# Altium schematic symbol library PDU_YEDEK.SchLib: 83 symbols (part 2 of 10)
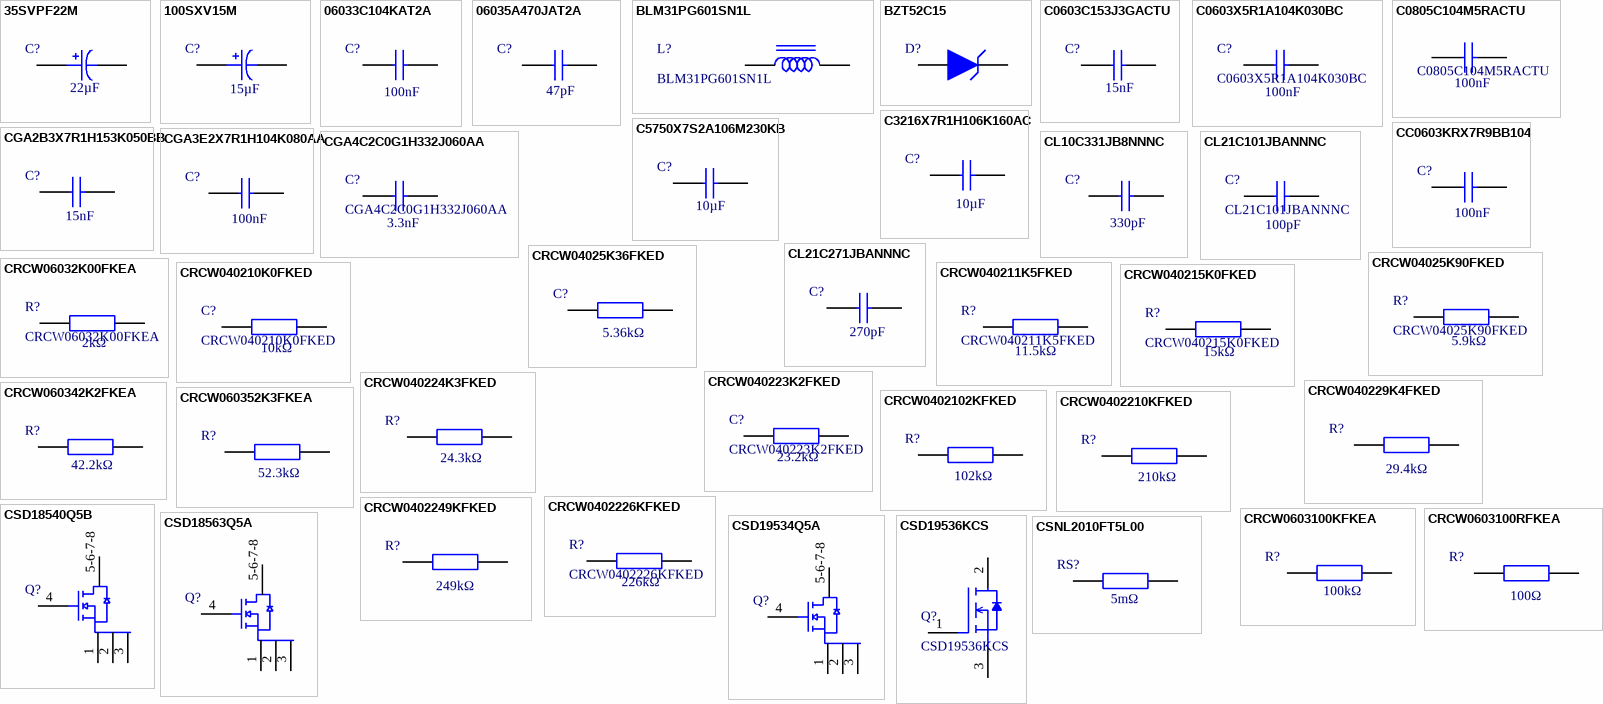
[diagram p3: symbols 35SVPF22M to CSNL2010FT5L00]

## C0805C104M5RACTU
designator C?  value 100nF
50V 100nF X7R ±20% 0805 Multilayer Ceramic Capacitors MLCC - SMD/SMT ROHS; Manufacturer: Yageo Group; Dissipation Factor: 2.5%; Temperature Coefficient: 30ppm/°C; Supplier: Farnell; Supplier Part Number: C0805C104M5RACTU; Manufacturer Part Number: C0805C104M5RACTU; RoHS: Compliant; Category: Ceramic Capacitors; Stock: 81750; Pricing: 10=0,0284, 100=0,0246, 500=0,0179, 1000=0,0161, 2000=0,0135 (EUR); Case/Package: 0805; Case Code (Imperial): 0805; China RoHS: Compliant; Country of Origin: Mexico; Depth: 1.25mm; Dielectric: X7R; Dielectric Material: Ceramic; Export Control Classification Number (ECCN) Code: EAR99; Height: 780µm; Harmonized Tariff Schedule (HTS) Code: 8532.24.00.20; Introduction Date: 2008-01-10; Lead Free: Lead Free; Length: 2mm; Lifecycle Status: Production; Material: Ceramic; Max Operating Temperature: 125°C; Min Operating Temperature: -55°C; Mounting Technology: Surface Mount; Pins: 2; Number of Terminals: 2; Packaging: Cut Tape; Radiation Hardening: No; REACH SVHC: Yes; Schedule B: 8532240020, 8532240020|8532240020, 8532240020|8532240020|8532240020, 8532240020|8532240020|8532240020|8532240020; Termination: SMD/SMT; Thickness: 889µm; Tolerance: 20%; Voltage: 50V; Voltage Rating: 50V; Voltage Rating (DC): 50V; Weight: 5.499807mg; Width: 1.25mm; ComponentLink1URL: https://datasheet.octopart.com:443/C0805C104M5RACTU-KEMET-datasheet-178445679.pdf?src-supplier=Farnell; ComponentLink1Description: https://datasheet.octopart.com:443/C0805C104M5RACTU-KEMET-datasheet-178445679.pdf?src-supplier=Farnell; ComponentLink2URL: https://datasheet.octopart.com:443/C0805C104M5RACTU-KEMET-datasheet-137357759.pdf?src-supplier=Farnell; ComponentLink2Description: https://datasheet.octopart.com:443/C0805C104M5RACTU-KEMET-datasheet-137357759.pdf?src-supplier=Farnell; ComponentLink3URL: https://datasheet.octopart.com:443/C0805C104M5RACTU-KEMET-datasheet-101576149.pdf?src-supplier=Farnell; ComponentLink3Description: https://datasheet.octopart.com:443/C0805C104M5RACTU-KEMET-datasheet-101576149.pdf?src-supplier=Farnell; ComponentLink4URL: https://datasheet.octopart.com:443/C0805C104M5RAC-TU-Kemet-datasheet-7833651.pdf?src-supplier=Farnell; ComponentLink4Description: https://datasheet.octopart.com:443/C0805C104M5RAC-TU-Kemet-datasheet-7833651.pdf?src-supplier=Farnell; ComponentLink5URL: https://datasheet.octopart.com:443/C0805C104M5RAC-TU-Kemet-datasheet-7601896.pdf?src-supplier=Farnell; ComponentLink5Description: https://datasheet.octopart.com:443/C0805C104M5RAC-TU-Kemet-datasheet-7601896.pdf?src-supplier=Farnell; ComponentLink6URL: https://datasheet.octopart.com:443/C0805C104M5RAC-TU-Kemet-datasheet-5316294.pdf?src-supplier=Farnell; ComponentLink6Description: https://datasheet.octopart.com:443/C0805C104M5RAC-TU-Kemet-datasheet-5316294.pdf?src-supplier=Farnell; ComponentLink7URL: https://datasheet.octopart.com:443/C0805C104M5RAC-TU-Kemet-datasheet-5314837.pdf?src-supplier=Farnell; ComponentLink7Description: https://datasheet.octopart.com:443/C0805C104M5RAC-TU-Kemet-datasheet-5314837.pdf?src-supplier=Farnell; ComponentLink8URL: https://datasheet.octopart.com:443/C0805C104M5RAC-TU-Kemet-datasheet-8092359.pdf?src-supplier=Farnell; ComponentLink8Description: https://datasheet.octopart.com:443/C0805C104M5RAC-TU-Kemet-datasheet-8092359.pdf?src-supplier=Farnell; ComponentLink9URL: https://datasheet.octopart.com:443/C0805C104M5RAC-TU-Kemet-datasheet-5314449.pdf?src-supplier=Farnell; ComponentLink9Description: https://datasheet.octopart.com:443/C0805C104M5RAC-TU-Kemet-datasheet-5314449.pdf?src-supplier=Farnell; ComponentLink10URL: https://datasheet.octopart.com:443/C0805C104M5RAC-TU-Kemet-datasheet-5314969.pdf?src-supplier=Farnell; ComponentLink10Description: https://datasheet.octopart.com:443/C0805C104M5RAC-TU-Kemet-datasheet-5314969.pdf?src-supplier=Farnell; ComponentLink11URL: https://datasheet.octopart.com:443/C0805C104M5RAC-TU-Kemet-datasheet-5314627.pdf?src-supplier=Farnell; ComponentLink11Description: https://datasheet.octopart.com:443/C0805C104M5RAC-TU-Kemet-datasheet-5314627.pdf?src-supplier=Farnell; ComponentLink12URL: https://datasheet.octopart.com:443/C0805C104M5RAC-TU-Kemet-datasheet-5389132.pdf?src-supplier=Farnell; ComponentLink12Description: https://datasheet.octopart.com:443/C0805C104M5RAC-TU-Kemet-datasheet-5389132.pdf?src-supplier=Farnell; ComponentLink13URL: https://datasheet.octopart.com:443/C0805C104M5RAC-TU-Kemet-datasheet-5313836.pdf?src-supplier=Farnell; ComponentLink13Description: https://datasheet.octopart.com:443/C0805C104M5RAC-TU-Kemet-datasheet-5313836.pdf?src-supplier=Farnell; ComponentLink14URL: https://datasheet.octopart.com:443/C0805C104M5RAC-TU-Kemet-datasheet-8111010.pdf?src-supplier=Farnell; ComponentLink14Description: https://datasheet.octopart.com:443/C0805C104M5RAC-TU-Kemet-datasheet-8111010.pdf?src-supplier=Farnell; ComponentLink15URL: https://datasheet.octopart.com:443/C0805C104M5RAC-TU-Kemet-datasheet-7627733.pdf?src-supplier=Farnell; ComponentLink15Description: https://datasheet.octopart.com:443/C0805C104M5RAC-TU-Kemet-datasheet-7627733.pdf?src-supplier=Farnell; ComponentLink16URL: https://datasheet.octopart.com:443/C0805C104M5RAC-TU-Kemet-datasheet-5315946.pdf?src-supplier=Farnell; ComponentLink16Description: https://datasheet.octopart.com:443/C0805C104M5RAC-TU-Kemet-datasheet-5315946.pdf?src-supplier=Farnell; ComponentLink17URL: https://datasheet.octopart.com:443/C0805C104M5RACTU-KEMET-datasheet-182041143.pdf?src-supplier=IHS; ComponentLink17Description: https://datasheet.octopart.com:443/C0805C104M5RACTU-KEMET-datasheet-182041143.pdf?src-supplier=IHS; ComponentLink18URL: https://datasheet.octopart.com:443/C0805C104M5RACTU-KEMET-datasheet-68331921.pdf?src-supplier=Upverter; ComponentLink18Description: https://datasheet.octopart.com:443/C0805C104M5RACTU-KEMET-datasheet-68331921.pdf?src-supplier=Upverter; ComponentLink19URL: https://datasheet.octopart.com:443/C0805C104M5RAC-TU-Kemet-datasheet-5313890.pdf?src-supplier=Newark; ComponentLink19Description: https://datasheet.octopart.com:443/C0805C104M5RAC-TU-Kemet-datasheet-5313890.pdf?src-supplier=Newark; ComponentLink20URL: https://datasheet.octopart.com:443/C0805C104M5RAC-TU-Kemet-datasheet-5390537.pdf?src-supplier=Newark; ComponentLink20Description: https://datasheet.octopart.com:443/C0805C104M5RAC-TU-Kemet-datasheet-5390537.pdf?src-supplier=Newark; ComponentLink21URL: https://datasheet.octopart.com:443/C0805C104M5RAC-TU-Kemet-datasheet-7541751.pdf?src-supplier=Newark; ComponentLink21Description: https://datasheet.octopart.com:443/C0805C104M5RAC-TU-Kemet-datasheet-7541751.pdf?src-supplier=Newark; ComponentLink22URL: https://datasheet.octopart.com:443/C0805C104M5RACTU-KEMET-datasheet-176289591.pdf?src-supplier=Newark; ComponentLink22Description: https://datasheet.octopart.com:443/C0805C104M5RACTU-KEMET-datasheet-176289591.pdf?src-supplier=Newark; ComponentLink23URL: https://datasheet.octopart.com:443/C0805C104M5RACTU-KEMET-datasheet-130256537.pdf?src-supplier=Newark; ComponentLink23Description: https://datasheet.octopart.com:443/C0805C104M5RACTU-KEMET-datasheet-130256537.pdf?src-supplier=Newark; ComponentLink24URL: https://datasheet.octopart.com:443/C0805C104M5RACTU-Kemet-datasheet-27203261.pdf?src-supplier=Newark; ComponentLink24Description: https://datasheet.octopart.com:443/C0805C104M5RACTU-Kemet-datasheet-27203261.pdf?src-supplier=Newark; ComponentLink25URL: https://datasheet.octopart.com:443/C0805C104M5RACTU-Kemet-datasheet-8764837.pdf?src-supplier=Newark; ComponentLink25Description: https://datasheet.octopart.com:443/C0805C104M5RACTU-Kemet-datasheet-8764837.pdf?src-supplier=Newark; ComponentLink26URL: https://datasheet.octopart.com:443/C0805C104M5RACTU-Kemet-datasheet-8480123.pdf?src-supplier=Newark; ComponentLink26Description: https://datasheet.octopart.com:443/C0805C104M5RACTU-Kemet-datasheet-8480123.pdf?src-supplier=Newark; ComponentLink27URL: https://datasheet.octopart.com:443/C0805C104M5RACTU-Kemet-datasheet-5393970.pdf?src-supplier=Newark; ComponentLink27Description: https://datasheet.octopart.com:443/C0805C104M5RACTU-Kemet-datasheet-5393970.pdf?src-supplier=Newark; ComponentLink28URL: https://datasheet.octopart.com:443/C0805C104M5RACTU-Kemet-datasheet-8502025.pdf?src-supplier=Newark; ComponentLink28Description: https://datasheet.octopart.com:443/C0805C104M5RACTU-Kemet-datasheet-8502025.pdf?src-supplier=Newark; ComponentLink29URL: https://datasheet.octopart.com:443/C0805C104M5RACTU-Kemet-datasheet-161801.pdf?src-supplier=Newark; ComponentLink29Description: https://datasheet.octopart.com:443/C0805C104M5RACTU-Kemet-datasheet-161801.pdf?src-supplier=Newark; ComponentLink30URL: https://datasheet.octopart.com:443/C0805C104M5RACTU-KEMET-datasheet-37550250.pdf?src-supplier=Electro+Sonic; ComponentLink30Description: https://datasheet.octopart.com:443/C0805C104M5RACTU-KEMET-datasheet-37550250.pdf?src-supplier=Electro+Sonic; ComponentLink31URL: https://datasheet.octopart.com:443/C0805C104M5RACTU-Kemet-datasheet-12608295.pdf?src-supplier=element14+APAC; ComponentLink31Description: https://datasheet.octopart.com:443/C0805C104M5RACTU-Kemet-datasheet-12608295.pdf?src-supplier=element14+APAC; ComponentLink32URL: https://datasheet.octopart.com:443/C0805C104M5RACTU-Kemet-datasheet-11992184.pdf?src-supplier=element14+APAC; ComponentLink32Description: https://datasheet.octopart.com:443/C0805C104M5RACTU-Kemet-datasheet-11992184.pdf?src-supplier=element14+APAC; ComponentLink33URL: https://datasheet.octopart.com:443/C0805C104M5RACTU-Kemet-datasheet-10942409.pdf?src-supplier=element14+APAC; ComponentLink33Description: https://datasheet.octopart.com:443/C0805C104M5RACTU-Kemet-datasheet-10942409.pdf?src-supplier=element14+APAC; ComponentLink34URL: https://datasheet.octopart.com:443/C0805C104M5RACTU-Kemet-datasheet-10404442.pdf?src-supplier=element14+APAC; ComponentLink34Description: https://datasheet.octopart.com:443/C0805C104M5RACTU-Kemet-datasheet-10404442.pdf?src-supplier=element14+APAC; ComponentLink35URL: https://datasheet.octopart.com:443/C0805C104M5RACTU-Kemet-datasheet-66534773.pdf?src-supplier=element14+APAC; ComponentLink35Description: https://datasheet.octopart.com:443/C0805C104M5RACTU-Kemet-datasheet-66534773.pdf?src-supplier=element14+APAC; ComponentLink36URL: https://datasheet.octopart.com:443/C0805C104M5RACTU-Kemet-datasheet-66100808.pdf?src-supplier=element14+APAC; ComponentLink36Description: https://datasheet.octopart.com:443/C0805C104M5RACTU-Kemet-datasheet-66100808.pdf?src-supplier=element14+APAC; ComponentLink37URL: https://datasheet.octopart.com:443/C0805C104M5RACTU-Kemet-datasheet-32036385.pdf?src-supplier=element14+APAC; ComponentLink37Description: https://datasheet.octopart.com:443/C0805C104M5RACTU-Kemet-datasheet-32036385.pdf?src-supplier=element14+APAC; ComponentLink38URL: https://datasheet.octopart.com:443/C0805C104M5RAC7800-KEMET-datasheet-188512054.pdf?src-supplier=ODG+(Origin+Data+Global); ComponentLink38Description: https://datasheet.octopart.com:443/C0805C104M5RAC7800-KEMET-datasheet-188512054.pdf?src-supplier=ODG+(Origin+Data+Global); ComponentLink39URL: https://datasheet.octopart.com:443/C0805C104M5RACTU-KEMET-datasheet-164512540.pdf?src-supplier=TME; ComponentLink39Description: https://datasheet.octopart.com:443/C0805C104M5RACTU-KEMET-datasheet-164512540.pdf?src-supplier=TME; ComponentLink40URL: https://datasheet.octopart.com:443/C0805C104M5RACTU-Kemet-datasheet-67847108.pdf?src-supplier=TME; ComponentLink40Description: https://datasheet.octopart.com:443/C0805C104M5RACTU-Kemet-datasheet-67847108.pdf?src-supplier=TME; ComponentLink41URL: https://datasheet.octopart.com:443/C0805C104M5RACTU-KEMET-datasheet-68331906.pdf?src-supplier=TME; ComponentLink41Description: https://datasheet.octopart.com:443/C0805C104M5RACTU-KEMET-datasheet-68331906.pdf?src-supplier=TME; ComponentLink42URL: https://datasheet.octopart.com:443/C0805C104M5RACTU-KEMET-datasheet-110724412.pdf?src-supplier=RS+(Formerly+Allied+Electronics); ComponentLink42Description: https://datasheet.octopart.com:443/C0805C104M5RACTU-KEMET-datasheet-110724412.pdf?src-supplier=RS+(Formerly+Allied+Electronics); ComponentLink43URL: https://datasheet.octopart.com:443/C0805C104M5RACTU-Kemet-datasheet-464.pdf?src-supplier=RS+(Formerly+Allied+Electronics); ComponentLink43Description: https://datasheet.octopart.com:443/C0805C104M5RACTU-Kemet-datasheet-464.pdf?src-supplier=RS+(Formerly+Allied+Electronics); ComponentLink44URL: https://datasheet.octopart.com/C0805C104M5RACTU-KEMET-datasheet-84169754.pdf; ComponentLink44Description: https://datasheet.octopart.com/C0805C104M5RACTU-KEMET-datasheet-84169754.pdf; ComponentLink45URL: https://datasheet.octopart.com:443/C0805C104M5RACTU-Kemet-datasheet-11629161.pdf?src-supplier=Arrow+Electronics; ComponentLink45Description: https://datasheet.octopart.com:443/C0805C104M5RACTU-Kemet-datasheet-11629161.pdf?src-supplier=Arrow+Electronics; ComponentLink46URL: https://datasheet.octopart.com:443/C0805C104M5RAC-TU-Kemet-datasheet-7281245.pdf?src-supplier=Jameco; ComponentLink46Description: https://datasheet.octopart.com:443/C0805C104M5RAC-TU-Kemet-datasheet-7281245.pdf?src-supplier=Jameco; ComponentLink47URL: http://sigma.octopart.com:80/conflict_mineral_statement/Yageo-company-3.pdf?src-supplier=Compliance+Statements; ComponentLink47Description: http://sigma.octopart.com:80/conflict_mineral_statement/Yageo-company-3.pdf?src-supplier=Compliance+Statements; ComponentLink48URL: http://sigma.octopart.com:80/rohs_statement/Yageo-company-2.pdf?src-supplier=Compliance+Statements; ComponentLink48Description: http://sigma.octopart.com:80/rohs_statement/Yageo-company-2.pdf?src-supplier=Compliance+Statements
pins: 1, 2

## C3216X7R1H106K160AC
designator C?  value 10µF  (hidden comment: C3216X7R1H106K160AC)
50V 10uF X7R 卤10% 1206 Multilayer Ceramic Capacitors MLCC - SMD/SMT ROHS; Manufacturer: TDK; Manufacturer Lifecycle Status: PRODUCTION; Supplier: Farnell; Supplier Part Number: C3216X7R1H106K160AC; Manufacturer Part Number: C3216X7R1H106K160AC; RoHS: Compliant; Category: Ceramic Capacitors; Stock: 6363; Pricing: 5=0,77, 50=0,378, 250=0,344, 500=0,286, 1000=0,268, 2000=0,259 (EUR); Case/Package: 1206; Case Code (Metric): 3216; China RoHS: Compliant; Dielectric: X7R; Dielectric Material: Ceramic; Export Control Classification Number (ECCN) Code: EAR99; Height: 1.6mm; Harmonized Tariff Schedule (HTS) Code: 8532.24.00.20; Introduction Date: 2018-03-29; Lead Free: Lead Free; Length: 3.2mm; Lifecycle Status: Production; Material: Ceramic; Max Length: 3.5mm; Max Operating Temperature: 125°C; Max Width: 1.9mm; Min Length: 3.1mm; Min Operating Temperature: -55°C; Min Width: 1.5mm; Mounting Technology: Surface Mount; Number of Terminals: 2; REACH SVHC: Yes; Schedule B: 8532240020, 8532240020|8532240020|8532240020|8532240020|8532240020; Thickness: 1.6mm; Voltage Rating: 50V; Voltage Rating (DC): 50V; Width: 1.6mm; ComponentLink1URL: https://datasheet.octopart.com:443/C3216X7R1H106K160AC-TDK-datasheet-175423548.pdf?src-supplier=TME; ComponentLink1Description: https://datasheet.octopart.com:443/C3216X7R1H106K160AC-TDK-datasheet-175423548.pdf?src-supplier=TME; ComponentLink2URL: https://datasheet.octopart.com:443/C3216X7R1H106K160AC-TDK-datasheet-182135025.pdf?src-supplier=TME; ComponentLink2Description: https://datasheet.octopart.com:443/C3216X7R1H106K160AC-TDK-datasheet-182135025.pdf?src-supplier=TME; ComponentLink3URL: https://datasheet.octopart.com:443/C3216X7R1H106K160AC-TDK-datasheet-159617022.pdf?src-supplier=TME; ComponentLink3Description: https://datasheet.octopart.com:443/C3216X7R1H106K160AC-TDK-datasheet-159617022.pdf?src-supplier=TME; ComponentLink4URL: https://datasheet.octopart.com:443/C3216X7R1H106K160AC-TDK-datasheet-151546523.pdf?src-supplier=ODG+(Origin+Data+Global); ComponentLink4Description: https://datasheet.octopart.com:443/C3216X7R1H106K160AC-TDK-datasheet-151546523.pdf?src-supplier=ODG+(Origin+Data+Global); ComponentLink5URL: https://datasheet.octopart.com/C3216X7R1H106K160AC-TDK-datasheet-41194876.pdf; ComponentLink5Description: https://datasheet.octopart.com/C3216X7R1H106K160AC-TDK-datasheet-41194876.pdf; ComponentLink6URL: https://datasheet.octopart.com/C-Series-Ceramic-Chip-Capacitors-TDK-datasheet-family-84.pdf; ComponentLink6Description: https://datasheet.octopart.com/C-Series-Ceramic-Chip-Capacitors-TDK-datasheet-family-84.pdf; ComponentLink7URL: http://sigma.octopart.com:80/rohs_certificate/C-Series-Ceramic-Chip-Capacitors-TDK-family-108.pdf?src-supplier=Compliance+Statements; ComponentLink7Description: http://sigma.octopart.com:80/rohs_certificate/C-Series-Ceramic-Chip-Capacitors-TDK-family-108.pdf?src-supplier=Compliance+Statements
pins: 1, 2

## C5750X7S2A106M230KB
designator C?  value 10µF  (hidden comment: C5750X7S2A106M230KB)
Multilayer Ceramic Capacitor, C Series, 10 - F, - 20%, X7S, 100 V, 2220 [5650 Metric]; Manufacturer: TDK; Manufacturer Lifecycle Status: PRODUCTION (NOT RECOMMENDED FOR NEW DESIGN); Voltage: 100V; Supplier: Future Electronics; Supplier Part Number: C5750X7S2A106M230KB; Manufacturer Part Number: C5750X7S2A106M230KB; RoHS: Compliant; Category: Ceramic Capacitors; Stock: 30000; Pricing: 500=0,88, 1000=0,865, 1500=0,86, 2000=0,85 (USD); Case/Package: 2220; Case Code (Imperial): 2220; Case Code (Metric): 5750; China RoHS: Compliant; Composition: Ceramic; Depth: 5mm; Dielectric: X7S; Dielectric Material: Ceramic; Height: 2.3mm; Lead Free: Lead Free; Length: 5.7mm; Lifecycle Status: NRND; Material: Ceramic; Max Length: 6.1mm; Max Operating Temperature: 125°C; Max Width: 5.4mm; Min Length: 5.3mm; Min Operating Temperature: -55°C; Min Width: 4.6mm; Mounting Technology: Surface Mount; Pins: 2; Number of Terminals: 2; REACH SVHC: Yes; Schedule B: 8532240020, 8532240020|8532240020|8532240020|8532240020|8532240020; Termination: SMD/SMT; Thickness: 2.4892mm; Tolerance: 20%; Voltage Rating: 100V; Voltage Rating (DC): 100V; Weight: 480.014126mg; Width: 5mm; ComponentLink1URL: https://datasheet.octopart.com:443/C5750X7S2A106M230KB-TDK-datasheet-159617022.pdf?src-supplier=IHS; ComponentLink1Description: https://datasheet.octopart.com:443/C5750X7S2A106M230KB-TDK-datasheet-159617022.pdf?src-supplier=IHS; ComponentLink2URL: https://datasheet.octopart.com:443/C5750X7S2A106M230KB-TDK-datasheet-151546522.pdf?src-supplier=TDK; ComponentLink2Description: https://datasheet.octopart.com:443/C5750X7S2A106M230KB-TDK-datasheet-151546522.pdf?src-supplier=TDK; ComponentLink3URL: https://datasheet.octopart.com:443/C5750X7S2A106M230KB-TDK-datasheet-43914167.pdf?src-supplier=Newark; ComponentLink3Description: https://datasheet.octopart.com:443/C5750X7S2A106M230KB-TDK-datasheet-43914167.pdf?src-supplier=Newark; ComponentLink4URL: https://datasheet.octopart.com:443/C5750X7S2A106M230KB-TDK-datasheet-15070070.pdf?src-supplier=Newark; ComponentLink4Description: https://datasheet.octopart.com:443/C5750X7S2A106M230KB-TDK-datasheet-15070070.pdf?src-supplier=Newark; ComponentLink5URL: https://datasheet.octopart.com:443/C5750X7S2A106M230KB-TDK-datasheet-41194876.pdf?src-supplier=Newark; ComponentLink5Description: https://datasheet.octopart.com:443/C5750X7S2A106M230KB-TDK-datasheet-41194876.pdf?src-supplier=Newark; ComponentLink6URL: https://datasheet.octopart.com:443/C5750X7S2A106M230KB-TDK-datasheet-154543791.pdf?src-supplier=ODG+(Origin+Data+Global); ComponentLink6Description: https://datasheet.octopart.com:443/C5750X7S2A106M230KB-TDK-datasheet-154543791.pdf?src-supplier=ODG+(Origin+Data+Global); ComponentLink7URL: https://datasheet.octopart.com:443/C5750X7S2A106M230KB-TDK-datasheet-13376850.pdf?src-supplier=Farnell; ComponentLink7Description: https://datasheet.octopart.com:443/C5750X7S2A106M230KB-TDK-datasheet-13376850.pdf?src-supplier=Farnell; ComponentLink8URL: https://datasheet.octopart.com:443/C5750X7S2A106M230KB-TDK-datasheet-11980753.pdf?src-supplier=Farnell; ComponentLink8Description: https://datasheet.octopart.com:443/C5750X7S2A106M230KB-TDK-datasheet-11980753.pdf?src-supplier=Farnell; ComponentLink9URL: https://datasheet.octopart.com:443/C5750X7S2A106M-TDK-datasheet-11517535.pdf?src-supplier=Farnell; ComponentLink9Description: https://datasheet.octopart.com:443/C5750X7S2A106M-TDK-datasheet-11517535.pdf?src-supplier=Farnell; ComponentLink10URL: https://datasheet.octopart.com:443/C5750X7S2A106M-TDK-datasheet-8852320.pdf?src-supplier=Farnell; ComponentLink10Description: https://datasheet.octopart.com:443/C5750X7S2A106M-TDK-datasheet-8852320.pdf?src-supplier=Farnell; ComponentLink11URL: https://datasheet.octopart.com:443/C5750X7S2A106M230KB-TDK-datasheet-12514252.pdf?src-supplier=Future+Electronics; ComponentLink11Description: https://datasheet.octopart.com:443/C5750X7S2A106M230KB-TDK-datasheet-12514252.pdf?src-supplier=Future+Electronics; ComponentLink12URL: https://datasheet.octopart.com:443/C5750X7S2A106M230KB-TDK-datasheet-8853194.pdf?src-supplier=Future+Electronics; ComponentLink12Description: https://datasheet.octopart.com:443/C5750X7S2A106M230KB-TDK-datasheet-8853194.pdf?src-supplier=Future+Electronics; ComponentLink13URL: https://datasheet.octopart.com:443/C5750X7S2A106M-TDK-datasheet-11775989.pdf?src-supplier=Factory+Futures; ComponentLink13Description: https://datasheet.octopart.com:443/C5750X7S2A106M-TDK-datasheet-11775989.pdf?src-supplier=Factory+Futures
pins: 1, 2

## CC0603KRX7R9BB104
designator C?  value 100nF  (hidden comment: CC0603KRX7R9BB104)
Multilayer Ceramic Capacitor, CC Series, 0.1 - F, - 10%, X7R, 50 V, 0603 [1608 Metric]; Manufacturer: Yageo Group; Voltage: 50V; Supplier: Farnell; Supplier Part Number: CC0603KRX7R9BB104; Manufacturer Part Number: CC0603KRX7R9BB104; RoHS: Compliant; Category: Ceramic Capacitors; Stock: 1056568; Pricing: 10=0,0259, 100=0,0121, 500=0,0113, 1000=0,0104, 2000=0,0089, 4000=0,0073 (EUR); Case/Package: 0603; Case Code (Imperial): 0603; Case Code (Metric): 1608; China RoHS: Compliant; Country of Origin: Mainland China, Taiwan; Depth: 800µm; Dielectric: X7R; Dielectric Material: Ceramic; Export Control Classification Number (ECCN) Code: EAR99; Halogen Free: Halogen Free; Height: 800µm; Harmonized Tariff Schedule (HTS) Code: 8532.24.00.20; Introduction Date: 2005-08-18; Lead Free: Lead Free; Length: 1.6mm; Lifecycle Status: Production; Material: Ceramic; Max Operating Temperature: 125°C; Min Operating Temperature: -55°C; Mounting Technology: Surface Mount; Pins: 2; Number of Terminals: 2; Radiation Hardening: No; REACH SVHC: Yes; Schedule B: 8532240020, 8532240020|8532240020, 8532240020|8532240020|8532240020, 8532240020|8532240020|8532240020|8532240020; Termination: SMD/SMT; Thickness: 889µm; Tolerance: 10%; Voltage Rating: 50V; Voltage Rating (DC): 50V; Width: 800µm; ComponentLink1URL: https://datasheet.octopart.com:443/CC0603KRX7R9BB104-Yageo-datasheet-177165144.pdf?src-supplier=IHS; ComponentLink1Description: https://datasheet.octopart.com:443/CC0603KRX7R9BB104-Yageo-datasheet-177165144.pdf?src-supplier=IHS; ComponentLink2URL: https://datasheet.octopart.com:443/CC0603KRX7R9BB104-Yageo-datasheet-82288757.pdf?src-supplier=Upverter; ComponentLink2Description: https://datasheet.octopart.com:443/CC0603KRX7R9BB104-Yageo-datasheet-82288757.pdf?src-supplier=Upverter; ComponentLink3URL: https://datasheet.octopart.com:443/CC0603KRX7R9BB104-Yageo-datasheet-68298032.pdf?src-supplier=Upverter; ComponentLink3Description: https://datasheet.octopart.com:443/CC0603KRX7R9BB104-Yageo-datasheet-68298032.pdf?src-supplier=Upverter; ComponentLink4URL: https://datasheet.octopart.com:443/CC0603KRX7R9BB104-Yageo-Group-datasheet-189192896.pdf?src-supplier=Future+Electronics; ComponentLink4Description: https://datasheet.octopart.com:443/CC0603KRX7R9BB104-Yageo-Group-datasheet-189192896.pdf?src-supplier=Future+Electronics; ComponentLink5URL: https://datasheet.octopart.com:443/CC0603KRX7R9BB104-Yageo-datasheet-12526321.pdf?src-supplier=Future+Electronics; ComponentLink5Description: https://datasheet.octopart.com:443/CC0603KRX7R9BB104-Yageo-datasheet-12526321.pdf?src-supplier=Future+Electronics; ComponentLink6URL: https://datasheet.octopart.com:443/CC0603KRX7R9BB104-Yageo-datasheet-166511530.pdf?src-supplier=Future+Electronics; ComponentLink6Description: https://datasheet.octopart.com:443/CC0603KRX7R9BB104-Yageo-datasheet-166511530.pdf?src-supplier=Future+Electronics; ComponentLink7URL: https://datasheet.octopart.com:443/CC0603KRX7R9BB104-Yageo-datasheet-137700082.pdf?src-supplier=Future+Electronics; ComponentLink7Description: https://datasheet.octopart.com:443/CC0603KRX7R9BB104-Yageo-datasheet-137700082.pdf?src-supplier=Future+Electronics; ComponentLink8URL: https://datasheet.octopart.com:443/CC0603KRX7R9BB104-Yageo-datasheet-137700084.pdf?src-supplier=Future+Electronics; ComponentLink8Description: https://datasheet.octopart.com:443/CC0603KRX7R9BB104-Yageo-datasheet-137700084.pdf?src-supplier=Future+Electronics; ComponentLink9URL: https://datasheet.octopart.com:443/CC0603KRX7R9BB104-Yageo-datasheet-27626582.pdf?src-supplier=Future+Electronics; ComponentLink9Description: https://datasheet.octopart.com:443/CC0603KRX7R9BB104-Yageo-datasheet-27626582.pdf?src-supplier=Future+Electronics; ComponentLink10URL: https://datasheet.octopart.com:443/CC0603KRX7R9BB104-Yageo-datasheet-15895757.pdf?src-supplier=Future+Electronics; ComponentLink10Description: https://datasheet.octopart.com:443/CC0603KRX7R9BB104-Yageo-datasheet-15895757.pdf?src-supplier=Future+Electronics; ComponentLink11URL: https://datasheet.octopart.com:443/CC0603KRX7R9BB104-Yageo-datasheet-8324192.pdf?src-supplier=Future+Electronics; ComponentLink11Description: https://datasheet.octopart.com:443/CC0603KRX7R9BB104-Yageo-datasheet-8324192.pdf?src-supplier=Future+Electronics; ComponentLink12URL: https://datasheet.octopart.com/CC0603KRX7R9BB104-Yageo-datasheet-10883670.pdf; ComponentLink12Description: https://datasheet.octopart.com/CC0603KRX7R9BB104-Yageo-datasheet-10883670.pdf; ComponentLink13URL: https://datasheet.octopart.com:443/CC0603KRX7R9BB104-Yageo-datasheet-181968726.pdf?src-supplier=Newark; ComponentLink13Description: https://datasheet.octopart.com:443/CC0603KRX7R9BB104-Yageo-datasheet-181968726.pdf?src-supplier=Newark; ComponentLink14URL: https://datasheet.octopart.com:443/CC0603KRX7R9BB104-Yageo-datasheet-499490.pdf?src-supplier=Newark; ComponentLink14Description: https://datasheet.octopart.com:443/CC0603KRX7R9BB104-Yageo-datasheet-499490.pdf?src-supplier=Newark; ComponentLink15URL: https://datasheet.octopart.com:443/CC0603KRX7R9BB104-Yageo-datasheet-62336348.pdf?src-supplier=Newark; ComponentLink15Description: https://datasheet.octopart.com:443/CC0603KRX7R9BB104-Yageo-datasheet-62336348.pdf?src-supplier=Newark; ComponentLink16URL: https://datasheet.octopart.com:443/CC0603KRX7R9BB104-Yageo-datasheet-147453679.pdf?src-supplier=Newark; ComponentLink16Description: https://datasheet.octopart.com:443/CC0603KRX7R9BB104-Yageo-datasheet-147453679.pdf?src-supplier=Newark; ComponentLink17URL: https://datasheet.octopart.com:443/CC0603KRX7R9BB104-Yageo-datasheet-151948686.pdf?src-supplier=Farnell; ComponentLink17Description: https://datasheet.octopart.com:443/CC0603KRX7R9BB104-Yageo-datasheet-151948686.pdf?src-supplier=Farnell; ComponentLink18URL: https://datasheet.octopart.com:443/CC0603KRX7R9BB104-Yageo-datasheet-500777.pdf?src-supplier=Farnell; ComponentLink18Description: https://datasheet.octopart.com:443/CC0603KRX7R9BB104-Yageo-datasheet-500777.pdf?src-supplier=Farnell; ComponentLink19URL: https://datasheet.octopart.com:443/CC0603KRX7R9BB104-Yageo-datasheet-178019014.pdf?src-supplier=Burklin+Elektronik; ComponentLink19Description: https://datasheet.octopart.com:443/CC0603KRX7R9BB104-Yageo-datasheet-178019014.pdf?src-supplier=Burklin+Elektronik; ComponentLink20URL: https://datasheet.octopart.com:443/CC0603KRX7R9BB104-Yageo-Group-datasheet-165992755.pdf?src-supplier=ODG+(Origin+Data+Global); ComponentLink20Description: https://datasheet.octopart.com:443/CC0603KRX7R9BB104-Yageo-Group-datasheet-165992755.pdf?src-supplier=ODG+(Origin+Data+Global); ComponentLink21URL: https://datasheet.octopart.com:443/CC0603KRX7R9BB104-Yageo-datasheet-140260305.pdf?src-supplier=SOS+electronic; ComponentLink21Description: https://datasheet.octopart.com:443/CC0603KRX7R9BB104-Yageo-datasheet-140260305.pdf?src-supplier=SOS+electronic; ComponentLink22URL: https://datasheet.octopart.com:443/CC0603KRX7R9BB104-Yageo-datasheet-120101875.pdf?src-supplier=Megastar; ComponentLink22Description: https://datasheet.octopart.com:443/CC0603KRX7R9BB104-Yageo-datasheet-120101875.pdf?src-supplier=Megastar; ComponentLink23URL: https://datasheet.octopart.com:443/CC0603KRX7R9BB104-Yageo-datasheet-8701427.pdf?src-supplier=element14; ComponentLink23Description: https://datasheet.octopart.com:443/CC0603KRX7R9BB104-Yageo-datasheet-8701427.pdf?src-supplier=element14; ComponentLink24URL: https://datasheet.octopart.com:443/CC0603KRX7R9BB104-Yageo-datasheet-5301394.pdf?src-supplier=element14; ComponentLink24Description: https://datasheet.octopart.com:443/CC0603KRX7R9BB104-Yageo-datasheet-5301394.pdf?src-supplier=element14; ComponentLink25URL: https://datasheet.octopart.com:443/CC0603KRX7R9BB104-Yageo-datasheet-17600895.pdf?src-supplier=TME; ComponentLink25Description: https://datasheet.octopart.com:443/CC0603KRX7R9BB104-Yageo-datasheet-17600895.pdf?src-supplier=TME; ComponentLink26URL: http://sigma.octopart.com:80/15889575/rohs_statement/Yageo-CC0603KRX7R9BB104.pdf?src-supplier=Compliance+Statements; ComponentLink26Description: http://sigma.octopart.com:80/15889575/rohs_statement/Yageo-CC0603KRX7R9BB104.pdf?src-supplier=Compliance+Statements; ComponentLink27URL: http://sigma.octopart.com:80/conflict_mineral_statement/Yageo-company-3.pdf?src-supplier=Compliance+Statements; ComponentLink27Description: http://sigma.octopart.com:80/conflict_mineral_statement/Yageo-company-3.pdf?src-supplier=Compliance+Statements
pins: 1, 2

## CGA2B3X7R1H153K050BB
designator C?  value 15nF  (hidden comment: CGA2B3X7R1H153K050BB)
Cap Ceramic 0.015uF 50V X7R 10% Pad SMD 0402 125C Low ESR Automotive T/R; Manufacturer: TDK; Manufacturer Lifecycle Status: PRODUCTION; Supplier: Future Electronics; Supplier Part Number: CGA2B3X7R1H153K050BB; Manufacturer Part Number: CGA2B3X7R1H153K050BB; RoHS: Compliant; Category: Ceramic Capacitors; Stock: 10000; Pricing: 10000=0,0093, 30000=0,009, 40000=0,0089, 100000=0,0087, 150000=0,0085 (USD); Case/Package: 0402; Case Code (Imperial): 0402; Case Code (Metric): 1005; China RoHS: Compliant; Composition: Ceramic; Country of Origin: Japan; Depth: 500µm; Dielectric: X7R; Dielectric Material: Ceramic; Export Control Classification Number (ECCN) Code: EAR99; Height: 500µm; Harmonized Tariff Schedule (HTS) Code: 8532.24.00.20; Introduction Date: 2012-12-22; Length: 1mm; Lifecycle Status: Production; Material: Ceramic; Max Length: 1.05mm; Max Operating Temperature: 125°C; Max Width: 550µm; Min Length: 950µm; Min Operating Temperature: -55°C; Min Width: 450µm; Mounting Technology: Surface Mount; Number of Terminals: 2; Ratings: AEC-Q200; REACH SVHC: Yes; Schedule B: 8532240020, 8532240020|8532240020|8532240020|8532240020|8532240020; Termination: SMD/SMT; Thickness: 558.8µm; Tolerance: 10%; Voltage Rating: 50V; Voltage Rating (DC): 50V; Weight: 652.039032µg; Width: 500µm; ComponentLink1URL: https://datasheet.octopart.com:443/CGA2B3X7R1H153K050BB-TDK-datasheet-165583812.pdf?src-supplier=IHS; ComponentLink1Description: https://datasheet.octopart.com:443/CGA2B3X7R1H153K050BB-TDK-datasheet-165583812.pdf?src-supplier=IHS; ComponentLink2URL: https://datasheet.octopart.com:443/CGA2B3X7R1H153K050BB-TDK-datasheet-138890726.pdf?src-supplier=Upverter; ComponentLink2Description: https://datasheet.octopart.com:443/CGA2B3X7R1H153K050BB-TDK-datasheet-138890726.pdf?src-supplier=Upverter; ComponentLink3URL: https://datasheet.octopart.com:443/CGA2B3X7R1H153K050BB-TDK-datasheet-151546526.pdf?src-supplier=TDK; ComponentLink3Description: https://datasheet.octopart.com:443/CGA2B3X7R1H153K050BB-TDK-datasheet-151546526.pdf?src-supplier=TDK; ComponentLink4URL: https://datasheet.octopart.com:443/CGA2B3X7R1H153K050BB-TDK-datasheet-43366117.pdf?src-supplier=Newark; ComponentLink4Description: https://datasheet.octopart.com:443/CGA2B3X7R1H153K050BB-TDK-datasheet-43366117.pdf?src-supplier=Newark; ComponentLink5URL: https://datasheet.octopart.com:443/CGA2B3X7R1H153K050BB-TDK-datasheet-33009218.pdf?src-supplier=Newark; ComponentLink5Description: https://datasheet.octopart.com:443/CGA2B3X7R1H153K050BB-TDK-datasheet-33009218.pdf?src-supplier=Newark; ComponentLink6URL: https://datasheet.octopart.com:443/CGA2B3X7R1H153K050BB-TDK-datasheet-13376850.pdf?src-supplier=Newark; ComponentLink6Description: https://datasheet.octopart.com:443/CGA2B3X7R1H153K050BB-TDK-datasheet-13376850.pdf?src-supplier=Newark; ComponentLink7URL: https://datasheet.octopart.com:443/CGA2B3X7R1H153K050BB-TDK-datasheet-12542526.pdf?src-supplier=Newark; ComponentLink7Description: https://datasheet.octopart.com:443/CGA2B3X7R1H153K050BB-TDK-datasheet-12542526.pdf?src-supplier=Newark; ComponentLink8URL: https://datasheet.octopart.com:443/CGA2B3X7R1H153K050BB-TDK-datasheet-140571036.pdf?src-supplier=Arrow.cn; ComponentLink8Description: https://datasheet.octopart.com:443/CGA2B3X7R1H153K050BB-TDK-datasheet-140571036.pdf?src-supplier=Arrow.cn
pins: 1, 2

## CGA3E2X7R1H104K080AA
designator C?  value 100nF  (hidden comment: CGA3E2X7R1H104K080AA)
CGA Series 0603 100 nF 50 V ±10 % Tolerance X7R SMT Multilayer Ceramic Capacitor; Manufacturer: TDK; Manufacturer Lifecycle Status: PRODUCTION; Tolerance: 10%; Voltage: 50V; Supplier: Farnell; Supplier Part Number: CGA3E2X7R1H104K080AA; Manufacturer Part Number: CGA3E2X7R1H104K080AA; RoHS: Compliant; Category: Ceramic Capacitors; Stock: 155038; Pricing: 10=0,0336, 100=0,0286, 500=0,0215, 1000=0,0184, 2000=0,0173 (EUR); Case/Package: 0603; Case Code (Imperial): 0603; Case Code (Metric): 1608; China RoHS: Compliant; Composition: Ceramic; Depth: 800µm; Dielectric: X7R; Dielectric Material: Ceramic; Height: 800µm; Lead Free: Lead Free; Length: 1.6mm; Lifecycle Status: Production; Material: Ceramic; Max Length: 1.7mm; Max Operating Temperature: 125°C; Max Width: 900µm; Min Length: 1.5mm; Min Operating Temperature: -55°C; Min Width: 700µm; Mounting Technology: Surface Mount; Number of Terminals: 2; Radiation Hardening: No; Ratings: AEC-Q200; REACH SVHC: Yes; Schedule B: 8532240020, 8532240020|8532240020|8532240020|8532240020|8532240020; Termination: SMD/SMT; Thickness: 889µm; Voltage Rating: 50V; Voltage Rating (DC): 50V; Weight: 2.012816mg; Width: 800µm; ComponentLink1URL: https://datasheet.octopart.com:443/CGA3E2X7R1H104K080AA-TDK-datasheet-165583812.pdf?src-supplier=IHS; ComponentLink1Description: https://datasheet.octopart.com:443/CGA3E2X7R1H104K080AA-TDK-datasheet-165583812.pdf?src-supplier=IHS; ComponentLink2URL: https://datasheet.octopart.com:443/CGA3E2X7R1H104K080AA-TDK-datasheet-138890726.pdf?src-supplier=Upverter; ComponentLink2Description: https://datasheet.octopart.com:443/CGA3E2X7R1H104K080AA-TDK-datasheet-138890726.pdf?src-supplier=Upverter; ComponentLink3URL: https://datasheet.octopart.com:443/CGA3E2X7R1H104K080AA-TDK-datasheet-43457115.pdf?src-supplier=Upverter; ComponentLink3Description: https://datasheet.octopart.com:443/CGA3E2X7R1H104K080AA-TDK-datasheet-43457115.pdf?src-supplier=Upverter; ComponentLink4URL: https://datasheet.octopart.com:443/CGA3E2X7R1H104K080AA-TDK-datasheet-151546526.pdf?src-supplier=ODG+(Origin+Data+Global); ComponentLink4Description: https://datasheet.octopart.com:443/CGA3E2X7R1H104K080AA-TDK-datasheet-151546526.pdf?src-supplier=ODG+(Origin+Data+Global); ComponentLink5URL: https://datasheet.octopart.com:443/CGA3E2X7R1H104K080AA-TDK-datasheet-43366117.pdf?src-supplier=Newark; ComponentLink5Description: https://datasheet.octopart.com:443/CGA3E2X7R1H104K080AA-TDK-datasheet-43366117.pdf?src-supplier=Newark; ComponentLink6URL: https://datasheet.octopart.com:443/CGA3E2X7R1H104K080AA-TDK-datasheet-23766614.pdf?src-supplier=Newark; ComponentLink6Description: https://datasheet.octopart.com:443/CGA3E2X7R1H104K080AA-TDK-datasheet-23766614.pdf?src-supplier=Newark; ComponentLink7URL: https://datasheet.octopart.com:443/CGA3E2X7R1H104K080AA-TDK-datasheet-13444418.pdf?src-supplier=Newark; ComponentLink7Description: https://datasheet.octopart.com:443/CGA3E2X7R1H104K080AA-TDK-datasheet-13444418.pdf?src-supplier=Newark; ComponentLink8URL: https://datasheet.octopart.com:443/CGA3E2X7R1H104K080AA.-TDK-datasheet-159510193.pdf?src-supplier=Newark; ComponentLink8Description: https://datasheet.octopart.com:443/CGA3E2X7R1H104K080AA.-TDK-datasheet-159510193.pdf?src-supplier=Newark; ComponentLink9URL: https://datasheet.octopart.com:443/CGA3E2X7R1H104K080AA-TDK-datasheet-136412745.pdf?src-supplier=element14+APAC; ComponentLink9Description: https://datasheet.octopart.com:443/CGA3E2X7R1H104K080AA-TDK-datasheet-136412745.pdf?src-supplier=element14+APAC; ComponentLink10URL: https://datasheet.octopart.com:443/CGA3E2X7R1H104K080AA-TDK-datasheet-21217900.pdf?src-supplier=Farnell; ComponentLink10Description: https://datasheet.octopart.com:443/CGA3E2X7R1H104K080AA-TDK-datasheet-21217900.pdf?src-supplier=Farnell; ComponentLink11URL: https://datasheet.octopart.com:443/CGA3E2X7R1H104K080AA-TDK-datasheet-164882302.pdf?src-supplier=Burklin+Elektronik; ComponentLink11Description: https://datasheet.octopart.com:443/CGA3E2X7R1H104K080AA-TDK-datasheet-164882302.pdf?src-supplier=Burklin+Elektronik; ComponentLink12URL: https://datasheet.octopart.com:443/CGA3E2X7R1H104K080AA-TDK-datasheet-13234200.pdf?src-supplier=Future+Electronics; ComponentLink12Description: https://datasheet.octopart.com:443/CGA3E2X7R1H104K080AA-TDK-datasheet-13234200.pdf?src-supplier=Future+Electronics; ComponentLink13URL: https://datasheet.octopart.com:443/CGA3E2X7R1H104K080AA-TDK-datasheet-12527010.pdf?src-supplier=Future+Electronics; ComponentLink13Description: https://datasheet.octopart.com:443/CGA3E2X7R1H104K080AA-TDK-datasheet-12527010.pdf?src-supplier=Future+Electronics; ComponentLink14URL: https://datasheet.octopart.com:443/CGA3E2X7R1H104K080AA-TDK-datasheet-140571036.pdf?src-supplier=Arrow.cn; ComponentLink14Description: https://datasheet.octopart.com:443/CGA3E2X7R1H104K080AA-TDK-datasheet-140571036.pdf?src-supplier=Arrow.cn
pins: 1, 2

## CGA4C2C0G1H332J060AA
designator C?  value 3.3nF
50V 3.3nF C0G 卤5% 0805 Multilayer Ceramic Capacitors MLCC - SMD/SMT ROHS; Manufacturer: TDK; Manufacturer Lifecycle Status: PRODUCTION; Manufacturer Package Identifier: 0805 (2012 metric); Temperature Coefficient: 30ppm/°C; Tolerance: 5%; Supplier: Farnell; Supplier Part Number: CGA4C2C0G1H332J060AA; Manufacturer Part Number: CGA4C2C0G1H332J060AA; RoHS: Compliant; Category: Ceramic Capacitors; Stock: 1840; Pricing: 10=0,0623, 100=0,0545, 500=0,0415, 1000=0,038, 2000=0,0372, 4000=0,0251 (EUR); Case/Package: 0805; Case Code (Imperial): 0805; Case Code (Metric): 2012; China RoHS: Compliant; Composition: Ceramic; Depth: 1.25mm; Dielectric: C0G; Dielectric Material: Ceramic; Height: 600µm; Length: 2mm; Lifecycle Status: Production; Material: Ceramic; Max Length: 2.2mm; Max Operating Temperature: 125°C; Max Width: 1.45mm; Min Length: 1.8mm; Min Operating Temperature: -55°C; Min Width: 1.05mm; Mounting Technology: Surface Mount; Number of Terminals: 2; Packaging: Digi-Reel®; Ratings: AEC-Q200; REACH SVHC: Yes; Schedule B: 8532240020, 8532240020|8532240020|8532240020|8532240020|8532240020; Termination: SMD/SMT; Thickness: 762µm; Voltage Rating: 50V; Voltage Rating (DC): 50V; Weight: 5.499807mg; Width: 1.25mm; ComponentLink1URL: https://datasheet.octopart.com:443/CGA4C2C0G1H332J060AA-TDK-datasheet-165583812.pdf?src-supplier=IHS; ComponentLink1Description: https://datasheet.octopart.com:443/CGA4C2C0G1H332J060AA-TDK-datasheet-165583812.pdf?src-supplier=IHS; ComponentLink2URL: https://datasheet.octopart.com:443/CGA4C2C0G1H332J060AA-TDK-datasheet-138890726.pdf?src-supplier=Upverter; ComponentLink2Description: https://datasheet.octopart.com:443/CGA4C2C0G1H332J060AA-TDK-datasheet-138890726.pdf?src-supplier=Upverter; ComponentLink3URL: https://datasheet.octopart.com:443/CGA4C2C0G1H332J060AA-TDK-datasheet-151546526.pdf?src-supplier=TDK; ComponentLink3Description: https://datasheet.octopart.com:443/CGA4C2C0G1H332J060AA-TDK-datasheet-151546526.pdf?src-supplier=TDK; ComponentLink4URL: https://datasheet.octopart.com:443/CGA4C2C0G1H332J060AA-TDK-datasheet-43366117.pdf?src-supplier=Future+Electronics; ComponentLink4Description: https://datasheet.octopart.com:443/CGA4C2C0G1H332J060AA-TDK-datasheet-43366117.pdf?src-supplier=Future+Electronics
pins: 1, 2

## CL10C331JB8NNNC
designator C?  value 330pF  (hidden comment: CL10C331JB8NNNC)
50V 330pF C0G 卤5% 0603 Multilayer Ceramic Capacitors MLCC - SMD/SMT ROHS; Manufacturer: Samsung Electro-Mechanics; Temperature Coefficient: 30ppm/°C; Tolerance: 5%; Supplier: Future Electronics; Supplier Part Number: CL10C331JB8NNNC; Manufacturer Part Number: CL10C331JB8NNNC; RoHS: Compliant; Category: Ceramic Capacitors; Stock: 512000; Pricing: 8000=0,004, 20000=0,0039, 80000=0,0037, 120000=0,0037, 300000=0,0035 (USD); Case/Package: 0603; Case Code (Imperial): 0603; Case Code (Metric): 1608; China RoHS: Compliant; Depth: 800µm; Dielectric: C0G; Dielectric Material: Ceramic; Height: 900µm; Lead Free: Lead Free; Length: 1.6mm; Lifecycle Status: Production; Material: Ceramic; Max Operating Temperature: 125°C; Min Operating Temperature: -55°C; Mounting Technology: Surface Mount; Number of Terminals: 2; Radiation Hardening: No; REACH SVHC: Yes; Schedule B: 8532240020, 8532240020|8532240020, 8532240020|8532240020|8532240020, 8532240020|8532240020|8532240020|8532240020; Thickness: 889µm; Voltage: 50V; Voltage Rating: 50V; Voltage Rating (DC): 50V; Width: 800µm; ComponentLink1URL: https://datasheet.octopart.com:443/CL10C331JB8NNNC-Samsung-Electro-Mechanics-datasheet-136482428.pdf?src-supplier=Newark; ComponentLink1Description: https://datasheet.octopart.com:443/CL10C331JB8NNNC-Samsung-Electro-Mechanics-datasheet-136482428.pdf?src-supplier=Newark; ComponentLink2URL: https://datasheet.octopart.com:443/CL10C331JB8NNNC-Samsung-Electro-Mechanics-datasheet-136533356.pdf?src-supplier=Newark; ComponentLink2Description: https://datasheet.octopart.com:443/CL10C331JB8NNNC-Samsung-Electro-Mechanics-datasheet-136533356.pdf?src-supplier=Newark; ComponentLink3URL: https://datasheet.octopart.com/CL10C331JB8NNNC-Samsung-Electro-Mechanics-datasheet-8324245.pdf; ComponentLink3Description: https://datasheet.octopart.com/CL10C331JB8NNNC-Samsung-Electro-Mechanics-datasheet-8324245.pdf; ComponentLink4URL: https://datasheet.octopart.com/CL10C331JB8NNNC-Samsung-Electro-Mechanics-datasheet-97040617.pdf; ComponentLink4Description: https://datasheet.octopart.com/CL10C331JB8NNNC-Samsung-Electro-Mechanics-datasheet-97040617.pdf; ComponentLink5URL: https://datasheet.octopart.com:443/CL10C331JB8NNNC-Samsung-Electro-Mechanics-datasheet-110226367.pdf?src-supplier=Future+Electronics; ComponentLink5Description: https://datasheet.octopart.com:443/CL10C331JB8NNNC-Samsung-Electro-Mechanics-datasheet-110226367.pdf?src-supplier=Future+Electronics; ComponentLink6URL: https://datasheet.octopart.com:443/CL10C331JB8NNNC-Samsung-Electro-Mechanics-datasheet-81462034.pdf?src-supplier=Future+Electronics; ComponentLink6Description: https://datasheet.octopart.com:443/CL10C331JB8NNNC-Samsung-Electro-Mechanics-datasheet-81462034.pdf?src-supplier=Future+Electronics; ComponentLink7URL: https://datasheet.octopart.com:443/CL10C331JB8NNNC-Samsung-datasheet-42280642.pdf?src-supplier=Future+Electronics; ComponentLink7Description: https://datasheet.octopart.com:443/CL10C331JB8NNNC-Samsung-datasheet-42280642.pdf?src-supplier=Future+Electronics; ComponentLink8URL: https://datasheet.octopart.com:443/CL10C331JB8NNNC-Samsung-datasheet-26669171.pdf?src-supplier=Future+Electronics; ComponentLink8Description: https://datasheet.octopart.com:443/CL10C331JB8NNNC-Samsung-datasheet-26669171.pdf?src-supplier=Future+Electronics; ComponentLink9URL: https://datasheet.octopart.com:443/CL10C331JB8NNNC-Samsung-datasheet-8326407.pdf?src-supplier=TME; ComponentLink9Description: https://datasheet.octopart.com:443/CL10C331JB8NNNC-Samsung-datasheet-8326407.pdf?src-supplier=TME; ComponentLink10URL: https://datasheet.octopart.com:443/CL10C331JB8NNNC-Samsung-Electro-Mechanics-datasheet-11541288.pdf?src-supplier=Arrow+Electronics; ComponentLink10Description: https://datasheet.octopart.com:443/CL10C331JB8NNNC-Samsung-Electro-Mechanics-datasheet-11541288.pdf?src-supplier=Arrow+Electronics
pins: 1, 2

## CL21C101JBANNNC
designator C?  value 100pF
50V 100pF C0G 卤5% 0805 Multilayer Ceramic Capacitors MLCC - SMD/SMT ROHS; Manufacturer: Samsung Electro-Mechanics; Temperature Coefficient: 30ppm/°C; Tolerance: 5%; Supplier: Future Electronics; Supplier Part Number: CL21C101JBANNNC; Manufacturer Part Number: CL21C101JBANNNC; RoHS: Compliant; Category: Ceramic Capacitors; Stock: 908000; Pricing: 4000=0,0045, 16000=0,0043, 60000=0,0041, 100000=0,0041, 200000=0,0039 (USD); Case/Package: 0805; Case Code (Imperial): 0805; Case Code (Metric): 2012; China RoHS: Compliant; Contact Plating: Tin; Depth: 1.25mm; Dielectric: C0G; Dielectric Material: Ceramic; Height: 750µm; Lead Free: Lead Free; Length: 2mm; Lifecycle Status: Production; Material: Ceramic; Max Operating Temperature: 125°C; Min Operating Temperature: -55°C; Mounting Technology: Surface Mount; Number of Terminals: 2; Radiation Hardening: No; REACH SVHC: Yes; Schedule B: 8532240020, 8532240020|8532240020, 8532240020|8532240020|8532240020, 8532240020|8532240020|8532240020|8532240020; Thickness: 762µm; Voltage: 50V; Voltage Rating: 50V; Voltage Rating (DC): 50V; Width: 1.25mm; ComponentLink1URL: https://datasheet.octopart.com:443/CL21C101JBANNNC-Samsung-Electro-Mechanics-datasheet-136482554.pdf?src-supplier=IHS; ComponentLink1Description: https://datasheet.octopart.com:443/CL21C101JBANNNC-Samsung-Electro-Mechanics-datasheet-136482554.pdf?src-supplier=IHS; ComponentLink2URL: https://datasheet.octopart.com/CL21C101JBANNNC-Samsung-Electro-Mechanics-datasheet-8324245.pdf; ComponentLink2Description: https://datasheet.octopart.com/CL21C101JBANNNC-Samsung-Electro-Mechanics-datasheet-8324245.pdf; ComponentLink3URL: https://datasheet.octopart.com/CL21C101JBANNNC-Samsung-Electro-Mechanics-datasheet-97040617.pdf; ComponentLink3Description: https://datasheet.octopart.com/CL21C101JBANNNC-Samsung-Electro-Mechanics-datasheet-97040617.pdf; ComponentLink4URL: https://datasheet.octopart.com/General-Multilayer-Ceramic-Capacitors-Samsung-datasheet-family-111.pdf; ComponentLink4Description: https://datasheet.octopart.com/General-Multilayer-Ceramic-Capacitors-Samsung-datasheet-family-111.pdf; ComponentLink5URL: https://datasheet.octopart.com:443/CL21C101JBANNNC-Samsung-Electro-Mechanics-datasheet-110334054.pdf?src-supplier=Future+Electronics; ComponentLink5Description: https://datasheet.octopart.com:443/CL21C101JBANNNC-Samsung-Electro-Mechanics-datasheet-110334054.pdf?src-supplier=Future+Electronics; ComponentLink6URL: https://datasheet.octopart.com:443/CL21C101JBANNNC-Samsung-Electro-Mechanics-datasheet-81462297.pdf?src-supplier=Future+Electronics; ComponentLink6Description: https://datasheet.octopart.com:443/CL21C101JBANNNC-Samsung-Electro-Mechanics-datasheet-81462297.pdf?src-supplier=Future+Electronics; ComponentLink7URL: https://datasheet.octopart.com:443/CL21C101JBANNNC-Samsung-datasheet-48647683.pdf?src-supplier=Future+Electronics; ComponentLink7Description: https://datasheet.octopart.com:443/CL21C101JBANNNC-Samsung-datasheet-48647683.pdf?src-supplier=Future+Electronics; ComponentLink8URL: https://datasheet.octopart.com:443/CL21C101JBANNNC-Samsung-datasheet-26669372.pdf?src-supplier=Future+Electronics; ComponentLink8Description: https://datasheet.octopart.com:443/CL21C101JBANNNC-Samsung-datasheet-26669372.pdf?src-supplier=Future+Electronics; ComponentLink9URL: https://datasheet.octopart.com:443/CL21C101JBANNNC-Samsung-Electro-Mechanics-datasheet-149066777.pdf?src-supplier=Future+Electronics; ComponentLink9Description: https://datasheet.octopart.com:443/CL21C101JBANNNC-Samsung-Electro-Mechanics-datasheet-149066777.pdf?src-supplier=Future+Electronics; ComponentLink10URL: https://datasheet.octopart.com:443/CL21C101JBANNNC-Samsung-datasheet-8326407.pdf?src-supplier=TME; ComponentLink10Description: https://datasheet.octopart.com:443/CL21C101JBANNNC-Samsung-datasheet-8326407.pdf?src-supplier=TME; ComponentLink11URL: http://sigma.octopart.com:80/rohs_certificate/General-Multilayer-Ceramic-Capacitors-Samsung-family-110.pdf?src-supplier=Compliance+Statements; ComponentLink11Description: http://sigma.octopart.com:80/rohs_certificate/General-Multilayer-Ceramic-Capacitors-Samsung-family-110.pdf?src-supplier=Compliance+Statements; ComponentLink12URL: http://sigma.octopart.com:80/rohs_statement/General-Multilayer-Ceramic-Capacitors-Samsung-family-132.pdf?src-supplier=Compliance+Statements; ComponentLink12Description: http://sigma.octopart.com:80/rohs_statement/General-Multilayer-Ceramic-Capacitors-Samsung-family-132.pdf?src-supplier=Compliance+Statements; ComponentLink13URL: http://sigma.octopart.com:80/reach_statement/General-Multilayer-Ceramic-Capacitors-Samsung-family-133.pdf?src-supplier=Compliance+Statements; ComponentLink13Description: http://sigma.octopart.com:80/reach_statement/General-Multilayer-Ceramic-Capacitors-Samsung-family-133.pdf?src-supplier=Compliance+Statements
pins: 1, 2